# Altium footprint library 海关全向控制器主控板电路V3.PcbLib: 35 footprints (part 3 of 3)
Each footprint in its own frame and in the unit in brackets; x right, y up, seen from the top. Pads: shape width x height; smd on the part's side, far side on the other; paste and mask are expansions set on the pad; w line width, h text height; cw(c..) or ccw(c..) is an arc to the next point about the centre after c.
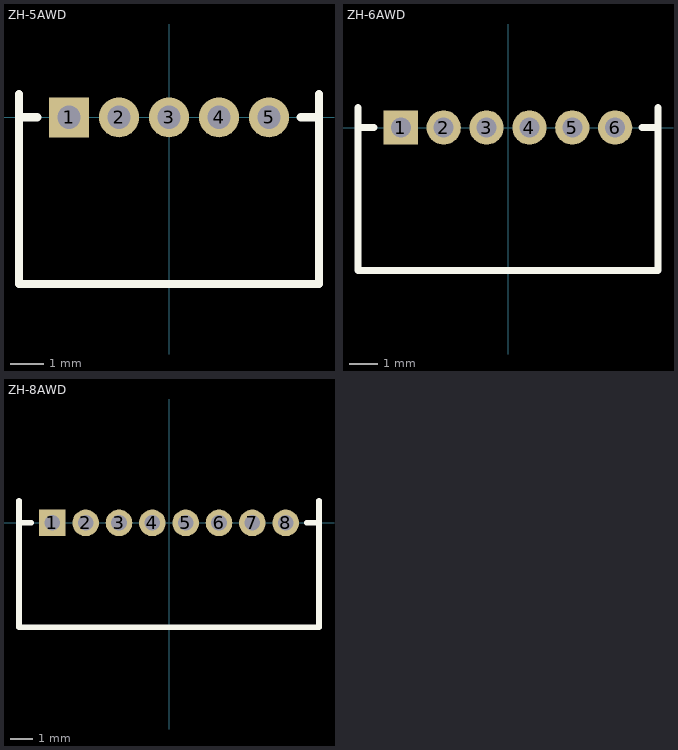
[diagram p2: the footprints below, top view; thin cyan lines are the x and y axes]

## ZH-5AWD [mm] "1.5mm，5P，卧插"
height 3.9
pads (5):
  rect 1.2x1.2 hole 0.7: 1(-3,0)
  round 1.2 hole 0.7: 2(-1.5,0) 3(0,0) 4(1.5,0) 5(3,0)
Top Overlay:
  lines w0.254: -4.5,0 -3.95,0 ; -4.5,0.7 -4.5,-5 4.5,-5 4.5,0.7 ; 3.95,0 4.5,0
3D body: height 3.95, standoff -2.85, extent -4.5,-5.05 4.5,0.65

## ZH-6AWD [mm] "1.5mm，6P，卧插"
height 3.9
pads (6):
  rect 1.2x1.2 hole 0.7: 1(-3.75,0)
  round 1.2 hole 0.7: 2(-2.25,0) 3(-0.75,0) 4(0.75,0) 5(2.25,0) 6(3.75,0)
Top Overlay:
  lines w0.254: -5.25,0 -4.7,0 ; -5.25,0.7 -5.25,-5 5.25,-5 5.25,0.7 ; 4.7,0 5.25,0
3D body: height 3.95, standoff -2.85, extent -5.25,-5.05 5.25,0.65

## ZH-8AWD [mm] "1.5mm，8P，卧插"
height 3.9
pads (8):
  rect 1.2x1.2 hole 0.7: 1(-5.25,0)
  round 1.2 hole 0.7: 2(-3.75,0) 3(-2.25,0) 4(-0.75,0) 5(0.75,0) 6(2.25,0) 7(3.75,0) 8(5.25,0)
Top Overlay:
  lines w0.254: -6.75,0 -6.2,0 ; -6.75,1 -6.75,-4.7 6.75,-4.7 6.75,1 ; 6.2,0 6.75,0
3D body: height 3.95, standoff -2.85, extent -6.75,-4.75 6.75,0.95